# Altium footprint library PTS645SMT.PcbLib: 1 footprints
Each footprint in its own frame and in the unit in brackets; x right, y up, seen from the top. Pads: shape width x height; smd on the part's side, far side on the other; paste and mask are expansions set on the pad; w line width, h text height; cw(c..) or ccw(c..) is an arc to the next point about the centre after c.
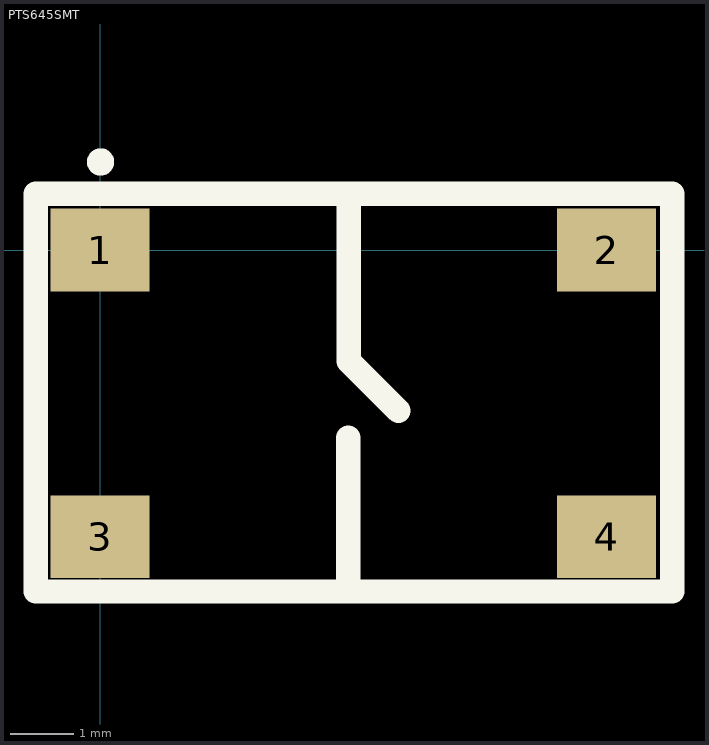
[diagram p0: the footprint, top view; thin cyan lines are the x and y axes]

## PTS645SMT [mm]
pads (4):
  rect 1.55x1.3 smd: 1(0,0) 2(7.95,0) 3(0,-4.5) 4(7.95,-4.5)
Top Overlay:
  circle w0.254: c0.007,1.382 r0.087
  lines w0.381: 3.896,-5.351 3.896,-2.947 ; 3.905,0.884 3.905,-1.651 3.905,-1.746 4.682,-2.524 ; 8.963,-5.36 -1.008,-5.36 -1.008,0.884 8.979,0.884 8.979,-5.36